# Altium schematic symbol library Fuse.SchLib: 6 symbols
Pins are listed as number, name and electrical type; pins without a type are passive.

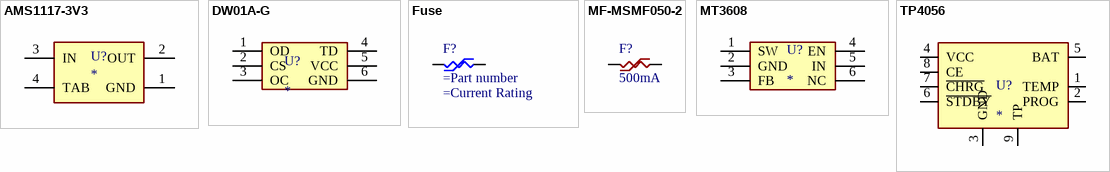
[diagram p0: symbols AMS1117-3V3 to TP4056]

## AMS1117-3V3
designator U?
Voltage - Input (Max) 7.5V / Voltage - Output (Min/Fixed) 3.3V / Current - Output 1A / Voltage Dropout (Max) 0.2V @ 100mA; Manufacturer: Texas Instruments; Case: SOT-223; ComponentLink1Description: Stock; ComponentLink1URL: https://www.chipdip.by/product/ams1117-3.3; ComponentLink2Description: HelpURL; ComponentLink2URL: https://static.chipdip.ru/lib/029/DOC001029248.pdf
footprint SOT223/TO261AA
pins: 1 GND (power), 2 OUT (power), 3 IN (power), 4 TAB (power)

## DW01A-G
designator U?
Manufacturer: Fortune Semicon; Case: SOT-23-6; Supplier 1: ChipDip; ComponentLink1Description: HelpURL; ComponentLink1URL: https://ic-fortune.com/upload/Download/DW01x-DS-17_EN.pdf; ComponentLink2Description: Stock; ComponentLink2URL: *; Supplier Part Number: 8003493413
footprint SOT95P280X145-6N (SOT23, 6-Leads, Body 2,90x2,80mm, Pitch 0,95mm, IPC Medium Density)
pins: 1 OD, 2 CS, 3 OC, 4 TD, 5 VCC, 6 GND

## Fuse
designator F?
Current Rating: =Current Rating
pins: 1, 2

## MF-MSMF050-2
designator F?, comment 500mA
Polymeric PTC Resettable Fuse 15V 500mA Ih Surface Mount 1812 (4532 Metric), Concave; Manufacturer: BOURNS; Value: 500mA; Case: 1812; Supplier 1: Digi-Key; Supplier Part Number 1: MF-MSMF050-2CT-ND
footprint FUSE1812
pins: 1, 2

## MT3608
designator U?
• Integrated 80mΩ Power MOSFET / • 2V to 24V Input Voltage / • 1.2MHz Fixed Switching Frequency / • Internal 4A Switch Current Limit / • Adjustable Output Voltage / • Internal Compensation / • Up to 28V Output Voltage / • Automatic Pulse Frequency Modulation / Mode at Light Loads / • up to 97% Efficiency / • Available in a 6-Pin SOT23-6 Package; Manufacturer: AEROSEMI; Case: SOT-23-6; Supplier 1: ChipDip; Supplier Part Number: 8003519412; ComponentLink1Description: HelpURl; ComponentLink1URL: https://www.olimex.com/Products/Breadboarding/BB-PWR-3608/resources/MT3608.pdf; ComponentLink2Description: Stock; ComponentLink2URL: https://www.chipdip.ru/product1/8003519412
footprint SOT-23-6 (SOT23, 6-Leads, Body 2,90x2,80mm, Pitch 0,95mm, IPC Medium Density)
pins: 1 SW, 2 GND, 3 FB, 4 EN, 5 IN, 6 NC

## TP4056
designator U?
Input Supply Voltage(VCC)：-0.3V～8V / TEMP：-0.3V～10V / CE：-0.3V～10V / BAT Short-Circuit Duration：Continuous / BAT Pin Current：1200mA / PROG Pin Current：1200uA / Maximum Junction Temperature：145℃ / Operating Ambient Temperature Range： / -40 ～85℃ / Lead Temp.(Soldering, 10sec)：260℃; Manufacturer: NanJing Top Power ASIC Corp.; Case: SOT- 8; Supplier 1: *; ComponentLink1Description: HelpURL; ComponentLink1URL: https://static.chipdip.ru/lib/977/DOC002977110.pdf; Supplier Part Numper 1: *
footprint SOP-8 (TSOP, 8-Leads, Body 4,90x3,90mm, Pitch 1,27mm, Thermal Pad 4,00x2,00mm, IPC Medium Density)
pins: 1 TEMP (power), 2 PROG (power), 3 GND (power), 4 VCC (power), 5 BAT (power), 6 ~{STDBY} (power), 7 ~{CHRG} (power), 8 CE (power), 9 TP (power)